# Altium footprint library microwave.PCBLIB: 3 footprints
Each footprint in its own frame and in the unit in brackets; x right, y up, seen from the top. Pads: shape width x height; smd on the part's side, far side on the other; paste and mask are expansions set on the pad; w line width, h text height; cw(c..) or ccw(c..) is an arc to the next point about the centre after c.
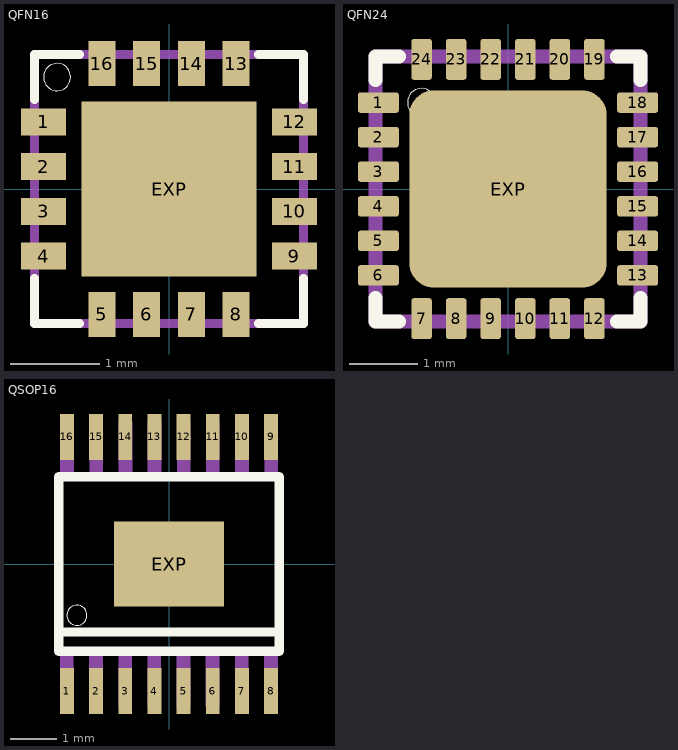
[diagram p0: the footprints below, top view; thin cyan lines are the x and y axes]

## QFN16 [mm]
pads (17):
  rect 0.5x0.3 smd: 1(-1.4,0.75) 2(-1.4,0.25) 3(-1.4,-0.25) 4(-1.4,-0.75) 9(1.4,-0.75) 10(1.4,-0.25) 11(1.4,0.25) 12(1.4,0.75)
  rect 0.3x0.5 smd: 5(-0.75,-1.4) 6(-0.25,-1.4) 7(0.25,-1.4) 8(0.75,-1.4) 13(0.75,1.4) 14(0.25,1.4) 15(-0.25,1.4) 16(-0.75,1.4)
  rect 1.95x1.95 smd: EXP(0,0)
Top Overlay:
  circle w0: c-1.25,1.25 r0.152
  lines w0.102: -1.5,-1 -1.5,-1.5 -1,-1.5 ; -1.5,1 -1.5,1.5 -1,1.5 ; 1,-1.5 1.5,-1.5 1.5,-1 ; 1,1.5 1.5,1.5 1.5,1
Top Paste:
  rectangle: -0.925,-0.925 0.925,0.925
  rectangle: -1.6,0.625 -1.175,0.875
  rectangle: -1.6,0.125 -1.175,0.375
  rectangle: -1.6,-0.375 -1.175,-0.125
  rectangle: -1.6,-0.875 -1.175,-0.625
  region: -0.625,-1.6 -0.625,-1.175 -0.875,-1.175 -0.875,-1.6
  region: -0.125,-1.6 -0.125,-1.175 -0.375,-1.175 -0.375,-1.6
  region: 0.375,-1.6 0.375,-1.175 0.125,-1.175 0.125,-1.6
  region: 0.875,-1.6 0.875,-1.175 0.625,-1.175 0.625,-1.6
  region: 1.6,-0.625 1.175,-0.625 1.175,-0.875 1.6,-0.875
  region: 1.6,-0.125 1.175,-0.125 1.175,-0.375 1.6,-0.375
  region: 1.6,0.375 1.175,0.375 1.175,0.125 1.6,0.125
  region: 1.6,0.875 1.175,0.875 1.175,0.625 1.6,0.625
  region: 0.625,1.6 0.625,1.175 0.875,1.175 0.875,1.6
  region: 0.125,1.6 0.125,1.175 0.375,1.175 0.375,1.6
  region: -0.375,1.6 -0.375,1.175 -0.125,1.175 -0.125,1.6
  region: -0.875,1.6 -0.875,1.175 -0.625,1.175 -0.625,1.6
Top Solder:
  rectangle: -1,-1 1,1
  rectangle: -1.675,0.575 -1.125,0.925
  rectangle: -1.675,0.075 -1.125,0.425
  rectangle: -1.675,-0.425 -1.125,-0.075
  rectangle: -1.675,-0.925 -1.125,-0.575
  region: -0.575,-1.675 -0.575,-1.125 -0.925,-1.125 -0.925,-1.675
  region: -0.075,-1.675 -0.075,-1.125 -0.425,-1.125 -0.425,-1.675
  region: 0.425,-1.675 0.425,-1.125 0.075,-1.125 0.075,-1.675
  region: 0.925,-1.675 0.925,-1.125 0.575,-1.125 0.575,-1.675
  region: 1.675,-0.575 1.125,-0.575 1.125,-0.925 1.675,-0.925
  region: 1.675,-0.075 1.125,-0.075 1.125,-0.425 1.675,-0.425
  region: 1.675,0.425 1.125,0.425 1.125,0.075 1.675,0.075
  region: 1.675,0.925 1.125,0.925 1.125,0.575 1.675,0.575
  region: 0.575,1.675 0.575,1.125 0.925,1.125 0.925,1.675
  region: 0.075,1.675 0.075,1.125 0.425,1.125 0.425,1.675
  region: -0.425,1.675 -0.425,1.125 -0.075,1.125 -0.075,1.675
  region: -0.925,1.675 -0.925,1.125 -0.575,1.125 -0.575,1.675
Mechanical 16:
  lines w0.102: -1.5,-1.5 1.5,-1.5 1.5,1.5 -1.5,1.5 -1.5,-1.5

## QFN24 [mil]
pads (25):
  rrect25% 23.62x11.81 smd: 1(-75,50) 2(-75,30) 3(-75,10) 4(-75,-10) 5(-75,-30) 6(-75,-50) 13(75,-50) 14(75,-30) 15(75,-10) 16(75,10) 17(75,30) 18(75,50)
  rrect25% 11.81x23.62 smd: 7(-50,-75) 8(-30,-75) 9(-10,-75) 10(10,-75) 11(30,-75) 12(50,-75) 19(50,75) 20(30,75) 21(10,75) 22(-10,75) 23(-30,75) 24(-50,75)
  rrect25% 114.17x114.17 smd: EXP(0,0)
Top Overlay:
  circle w0: c-50,50 r8.19
  lines w8: -76.77,-62.99 -76.77,-76.77 -62.99,-76.77 ; -76.77,62.99 -76.77,76.77 -62.99,76.77 ; 62.99,-76.77 76.77,-76.77 76.77,-62.99 ; 62.99,76.77 76.77,76.77 76.77,62.99
Mechanical 16:
  lines w8: -76.77,-76.77 -76.77,76.77 76.77,76.77 76.77,-76.77 -76.77,-76.77

## QSOP16 [mm]
pads (17):
  rect 0.3x1 smd: 1(-2.222,-2.768) 2(-1.587,-2.768) 3(-0.953,-2.768) 4(-0.318,-2.768) 5(0.318,-2.768) 6(0.953,-2.768) 7(1.587,-2.768) 8(2.222,-2.768) 9(2.222,2.768) 10(1.587,2.768) 11(0.953,2.768) 12(0.318,2.768) 13(-0.318,2.768) 14(-0.953,2.768) 15(-1.587,2.768) 16(-2.222,2.768)
  rect 2.4x1.85 smd: EXP(0,0)
Top Overlay:
  circle w0: c-2.008,-1.118 r0.22
  lines w0.203: -2.4,-1.48 2.4,-1.48 ; 2.4,-1.48 2.4,1.9 -2.4,1.9 -2.4,-1.9 2.4,-1.9 2.4,-1.48
Mechanical 16:
  rectangle: -2.375,-3.1 -2.075,-2
  rectangle: -1.74,-3.1 -1.44,-2
  rectangle: -1.105,-3.1 -0.805,-2
  rectangle: -0.47,-3.1 -0.17,-2
  rectangle: 0.165,-3.1 0.465,-2
  rectangle: 0.8,-3.1 1.1,-2
  rectangle: 1.435,-3.1 1.735,-2
  rectangle: 2.07,-3.1 2.37,-2
  region: 2.375,3.1 2.075,3.1 2.075,2 2.375,2
  region: 1.74,3.1 1.44,3.1 1.44,2 1.74,2
  region: 1.105,3.1 0.805,3.1 0.805,2 1.105,2
  region: 0.47,3.1 0.17,3.1 0.17,2 0.47,2
  region: -0.165,3.1 -0.465,3.1 -0.465,2 -0.165,2
  region: -0.8,3.1 -1.1,3.1 -1.1,2 -0.8,2
  region: -1.435,3.1 -1.735,3.1 -1.735,2 -1.435,2
  region: -2.07,3.1 -2.37,3.1 -2.37,2 -2.07,2